# Altium schematic symbol library Schlib1.SchLib: 11 symbols
Pins are listed as number, name and electrical type; pins without a type are passive.

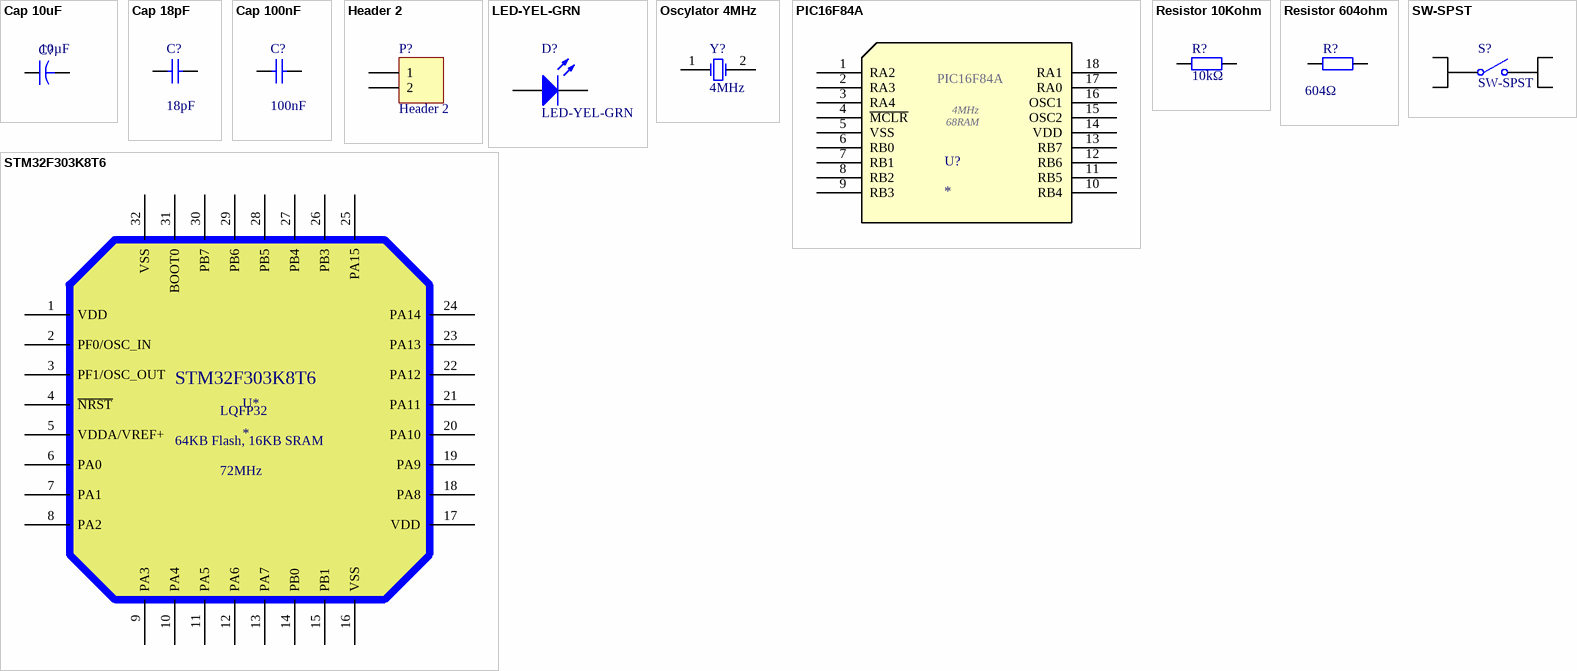
[diagram p0: symbols Cap 10uF to SW-SPST]

## Cap 10uF
designator C?  Capacity: 10µF  (hidden comment: Cap 10uF)
Capacitor; Manufacturer symbol: CM1H106M6L006VR; Manufacturer: SAMWHA; Tolerance: ±20%; Voltage: 50V; Temperature: -55...105°C; Supplier symbol: CM1H106M6L006VR; Supplier: tme.pl; Size: Ø6,3x5,8mm
footprint cappolar_CM1H106M6L006VR
simulation model CAP (Capacitor)
signal-integrity model Cap
pins: 1, 2

## Cap 18pF
designator C?, comment 18pF
Capacitor; Manufacturer: WALSIN; Manufacturer symbol: 0603N180G500CT; Voltage: 50V; Tolerance: ±2%; Supplier symbol: 0603N180G500CT; Supplier: tme.pl; Package: 0603; Temperature: -55...125°C; Value: 18pF
footprint capacitor0603nopolar
simulation model CAP (Capacitor)
signal-integrity model Cap
pins: 1, 2

## Cap 100nF
designator C?, comment 100nF
Capacitor; Manufacturer: WALSIN; Manufacturer symbol: 0603B104K101CT; Voltage: 100V; Tolerance: ±10%; Supplier symbol: 0603B104K101CT; Supplier: tme.pl; Package: 0603; Temperature: -55...125°C; Value: 100nF
footprint capacitor0603nopolar
simulation model CAP (Capacitor)
signal-integrity model Cap
pins: 1, 2

## Header 2
designator P?
Header, 2-Pin; Manufacturer: TE CONNECTIVITY; Manufacturer symbol: 825433-2; Montage: THT; Supplier: tme.pl; Supplier symbol: 825433-2; Type: Male; Pins: 2; Orientation: Straight
footprint header2,54
signal-integrity model Connector
pins: 1, 2

## LED-YEL-GRN
designator D?
Typical INFRARED GaAs LED; Manufacturer symbol: 19-21SYGC/S530-E1/4T; Manufacturer: EVERLIGHT; Color: żółto-zielony; Current: 20mA; Voltage: 1,7...2,4V; Supplier symbol: 19-21SYGC/S530-E1; Supplier: tme.pl; Package: 0603
footprint diode0603
simulation model LED0 (Diode)
pins: 1 A, 2 K

## Oscylator 4MHz
designator Y?, comment 4MHz
Crystal Oscillator; Manufacturer: IQD FREQUENCY PRODUCTS; Manufacturer symbol: LF XTAL003071; Capacity: 16pF; Power: 0,5mW; Montage: SMD; Supplier symbol: 4.00M-SMDHC49R; Supplier: tme.pl; Frequency: 4MHz; Package: HC49SM; Temperature: -10...60°C
footprint oscilator_XTAL003071
simulation model XTAL (Spice Subcircuit)
pins: 1 OSC1, 2 OSC2

## PIC16F84A
designator U?
Microchip; Manufacturer: MICROCHIP TECHNOLOGY; Manufacturer symbol: PIC16F84A-04/P; Voltage: 4...5,5V DC; Frequency: 4MHz; Montage: THT; Supplier: tme.pl; Supplier symbol: PIC16F84A-04/P; Temperature: 0..70°C; Package: DIP18
footprint DIP18
pins: 1 RA2, 2 RA3, 3 RA4, 4 ~{MCLR}, 5 VSS, 6 RB0, 7 RB1, 8 RB2, 9 RB3, 10 RB4, 11 RB5, 12 RB6, 13 RB7, 14 VDD, 15 OSC2, 16 OSC1, 17 RA0, 18 RA1
text: 68RAM

## Resistor 10Kohm
designator R?, comment 10kΩ
Resistor; Manufacturer: ROYAL OHM; Manufacturer symbol: HP03W5F1002T5E; Montage: SMD; Tolerance: ±1%; Voltage: 50V; Supplier symbol: HP03-10K1%; Supplier: tme.pl; Type: thick film; Resistance: 10kΩ; Temperature: -55...155°C; Package: 0603
footprint resistor0603
simulation model RESISTOR (Resistor)
signal-integrity model Res
pins: 1, 2

## Resistor 604ohm
designator R?, comment 604Ω
Resistor; Manufacturer: WALSIN; Manufacturer symbol: WR06X6040FTL; Montage: SMD; Tolerance: ±1%; Voltage: 75V; Supplier symbol: WR06X6040FTL; Supplier: tme.pl; Type: thick film; Temperature: -55...155°C; Package: 0603; Resistance: 604Ω
footprint resistor0603
simulation model RESISTOR (Resistor)
signal-integrity model Res
pins: 1, 2

## STM32F303K8T6
designator U*
Microchip; Manufacturer symbol: STM32F303K8T6; Manufacturer: STMicroelectronics; Frequency: 72MHz; Montage: SMD; I/O: 10; Architecture: Cortex M4; Supplier symbol: STM32F303K8T6; Type: mikrokontroler ARM; Package: LQFP32; Temperature: -40...85°C; Supplier: tme.eu
footprint STM32F303K8T6 (TQFP, 32-Leads, Body 7,00x7,00mm, Pitch 0,80mm, IPC Medium Density)
pins: 1 VDD, 2 PF0/OSC_IN, 3 PF1/OSC_OUT, 4 ~{NRST}, 5 VDDA/VREF+, 6 PA0, 7 PA1, 8 PA2, 9 PA3, 10 PA4, 11 PA5, 12 PA6, 13 PA7, 14 PB0, 15 PB1, 16 VSS, 17 VDD, 18 PA8, 19 PA9, 20 PA10, 21 PA11, 22 PA12, 23 PA13, 24 PA14, 25 PA15, 26 PB3, 27 PB4, 28 PB5, 29 PB6, 30 PB7, 31 BOOT0, 32 VSS
text: 64KB Flash, 16KB SRAM

## SW-SPST
designator S?
Single-Pole, Single-Throw Switch; Manufacturer symbol: HP0315AFKP2-S; Manufacturer: NKK SWITCHES; Supplier: tme.pl; Supplier symbol: HP0315AFKP2-S; Temperature: -20...70°C; Dimensions: 6,2x6,2x4,4mm; Height: 4,4mm
footprint switch
pins: 1 NO, 2 NO, 3 NO, 4 NO